# EAGLE library part TX50108E (library logicconv)
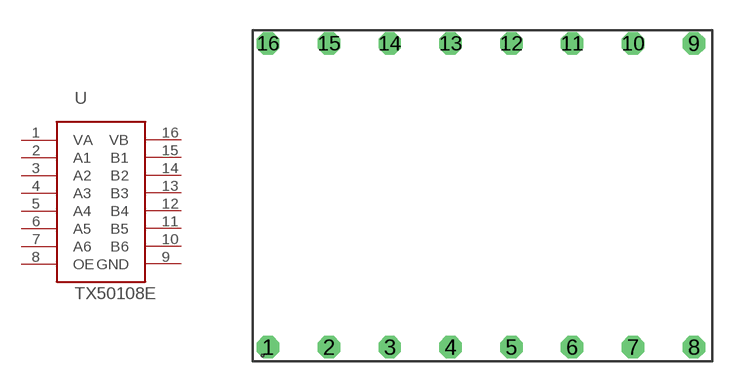
[diagram p0: symbol with the pads of TX50108E; footprint TX50108E]

Designator prefix -

## TX50108E  [TX50108E]
1  VA  pwr
2  A1
3  A2
4  A3
5  A4
6  A5
7  A6
8  OE
9  GND  pwr
10  B6
11  B5
12  B4
13  B3
14  B2
15  B1
16  VB  pwr

## Footprint TX50108E (pad centres in mm)
drill 0.6 octagon: 1 -10.5,-7.5; 2 -7.5,-7.5; 3 -4.5,-7.5; 4 -1.5,-7.5; 5 1.5,-7.5; 6 4.5,-7.5; 7 7.5,-7.5; 8 10.5,-7.5; 9 10.5,7.5; 10 7.5,7.5; 11 4.5,7.5; 12 1.5,7.5; 13 -1.5,7.5; 14 -4.5,7.5; 15 -7.5,7.5; 16 -10.5,7.5